# Altium footprint library GCT USB1046-GF-0190-L-B-A.PcbLib: 1 footprints
Each footprint in its own frame and in the unit in brackets; x right, y up, seen from the top. Pads: shape width x height; smd on the part's side, far side on the other; paste and mask are expansions set on the pad; w line width, h text height; cw(c..) or ccw(c..) is an arc to the next point about the centre after c.
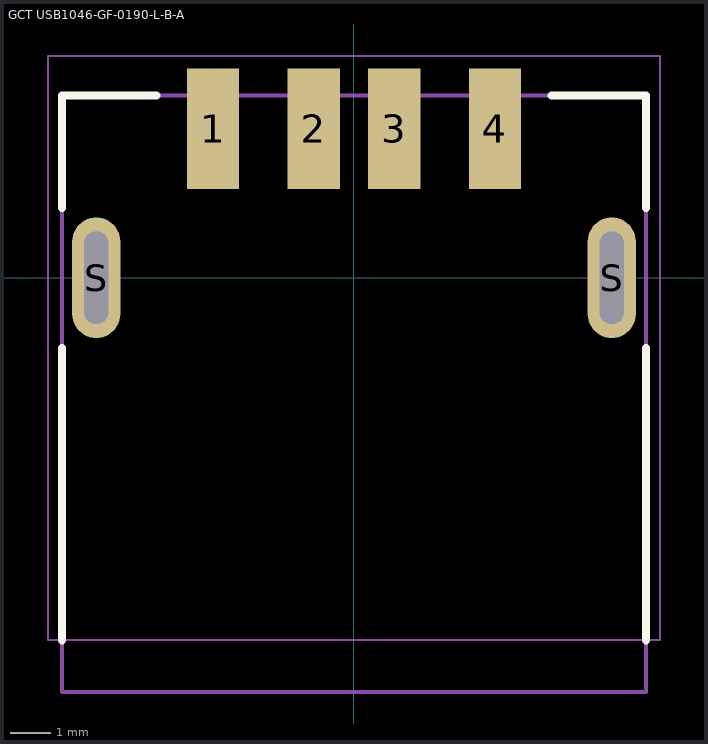
[diagram p0: the footprint, top view; thin cyan lines are the x and y axes]

## GCT USB1046-GF-0190-L-B-A [mm] "USB 2.0 Type A Receptacle"
height 7
pads (6):
  rect 1.3x3 smd: 1(-3.5,3.7) 2(-1,3.7) 3(1,3.7) 4(3.5,3.7)
  oval 1.2x3 hole 0.6 slot 2.3 at 90 deg: S(-6.4,0) S(6.4,0)
Top Overlay:
  lines w0.2: -7.25,-9 -7.25,-1.747 ; -7.25,1.73 -7.25,4.52 -4.901,4.52 ; 4.901,4.52 7.25,4.52 7.25,1.73 ; 7.25,-9 7.25,-1.747
Top Assembly:
  lines w0.1: -7.25,-10.28 -7.25,4.52 7.25,4.52 7.25,-10.28 -7.25,-10.28
Top Courtyard:
  lines w0.05: -7.6,-9 7.6,-9 7.6,5.5 -7.6,5.5 -7.6,-9
  text "PCB EDGE" at -2.151,-9.82 h1
Top Designator:
  text ".Designator" at -4.874,-2.854 h2
3D body "USB1046-GF-0190-L-B-A--3DModel-STEP-1.STEP": height 7.65, standoff -1.9, extent -7.25,-10.28 7.25,4.52